# Altium integrated library Seeed-LED.IntLib: 20 symbols
Pins are listed as number, name and electrical type; pins without a type are passive.

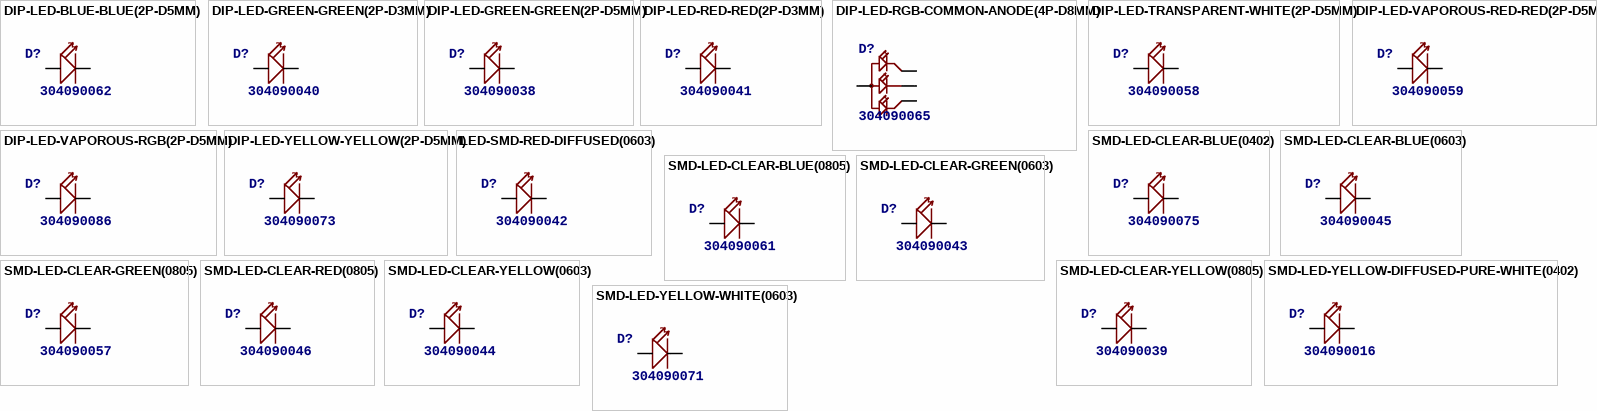
[diagram p0: symbols DIP-LED-BLUE-BLUE(2P-D5MM) to SMD-LED-YELLOW-WHITE(0603)]

## DIP-LED-BLUE-BLUE(2P-D5MM)
designator D?, comment 304090062
MPN: 504BW
footprint LED2-2.54-D5.0MM
pins: +, -

## DIP-LED-GREEN-GREEN(2P-D3MM)
designator D?, comment 304090040
MPN: CX-G302DC
footprint LED2-2.54-D3.0MM
pins: A +, K -

## DIP-LED-GREEN-GREEN(2P-D5MM)
designator D?, comment 304090038
MPN: G502DC
footprint LED2-2.54-D5.0MM
pins: +, -

## DIP-LED-RED-RED(2P-D3MM)
designator D?, comment 304090041
MPN: SR302DC
footprint LED2-2.54-D3.0MM
pins: A +, K -

## DIP-LED-RGB-COMMON-ANODE(4P-D8MM)
designator D?, comment 304090065
MPN: CZXR-80RGB03-A
footprint LED4-2.0-D8.0MM
pins: 1 R, 2 +, 3 G, 4 B

## DIP-LED-TRANSPARENT-WHITE(2P-D5MM)
designator D?, comment 304090058
MPN: 504WC
footprint LED2-2.54-D5.0MM
pins: +, -

## DIP-LED-VAPOROUS-RED-RED(2P-D5MM)
designator D?, comment 304090059
MPN: UR502DC
footprint LED2-2.54-D5.0MM
pins: ?1 +, ?2 -

## DIP-LED-VAPOROUS-RGB(2P-D5MM)
designator D?, comment 304090086
MPN: 504RGBW-K
footprint LED2-2.54-D5.0MM
pins: +, -

## DIP-LED-YELLOW-YELLOW(2P-D5MM)
designator D?, comment 304090073
MPN: Y502DC
footprint LED2-2.54-D5.0MM
pins: ?1 +, ?2 -

## LED-SMD-RED-DIFFUSED(0603)
designator D?, comment 304090042
MPN: 19-217-R6C-AL1M2VY-3T
footprint LED-0603
pins: +, -

## SMD-LED-CLEAR-BLUE(0402)
designator D?, comment 304090075
MPN: BL-HB337A-AV-TRB
footprint LED-0402
pins: +, -

## SMD-LED-CLEAR-BLUE(0603)
designator D?, comment 304090045
MPN: 19-217-BHC-ZL1M2RY-3T
footprint LED-0603
pins: +, -

## SMD-LED-CLEAR-BLUE(0805)
designator D?, comment 304090061
MPN: EL-17-215/BHC-AN1P2/3T
footprint LED-0805
pins: +, -

## SMD-LED-CLEAR-GREEN(0603)
designator D?, comment 304090043
MPN: 19-217-G7C-AN1P2-3T
footprint LED-0603
pins: +, -

## SMD-LED-CLEAR-GREEN(0805)
designator D?, comment 304090057
MPN: 17-215SYGC/S530-E2/TR8
footprint LED-0805
pins: +, -

## SMD-LED-CLEAR-RED(0805)
designator D?, comment 304090046
MPN: 17-215SURC/S530-A2/TR8
footprint LED-0805
pins: +, -

## SMD-LED-CLEAR-YELLOW(0603)
designator D?, comment 304090044
MPN: 19-217-Y5C-AM1N1VY-3T
footprint LED-0603
pins: +, -

## SMD-LED-CLEAR-YELLOW(0805)
designator D?, comment 304090039
MPN: 17-215UYC/S530-A3/TR8
footprint LED-0805
pins: +, -

## SMD-LED-YELLOW-DIFFUSED-PURE-WHITE(0402)
designator D?, comment 304090016
MPN: 16-219A/T2D-AR2T1QY/3T
footprint LED-0402
pins: +, -

## SMD-LED-YELLOW-WHITE(0603)
designator D?, comment 304090071
MPN: ADL-0603W
footprint LED-0603
pins: +, -